# Altium footprint library Конденсаторы-mm.PcbLib: 128 footprints (part 4 of 8)
Each footprint in its own frame and in the unit in brackets; x right, y up, seen from the top. Pads: shape width x height; smd on the part's side, far side on the other; paste and mask are expansions set on the pad; w line width, h text height; cw(c..) or ccw(c..) is an arc to the next point about the centre after c.
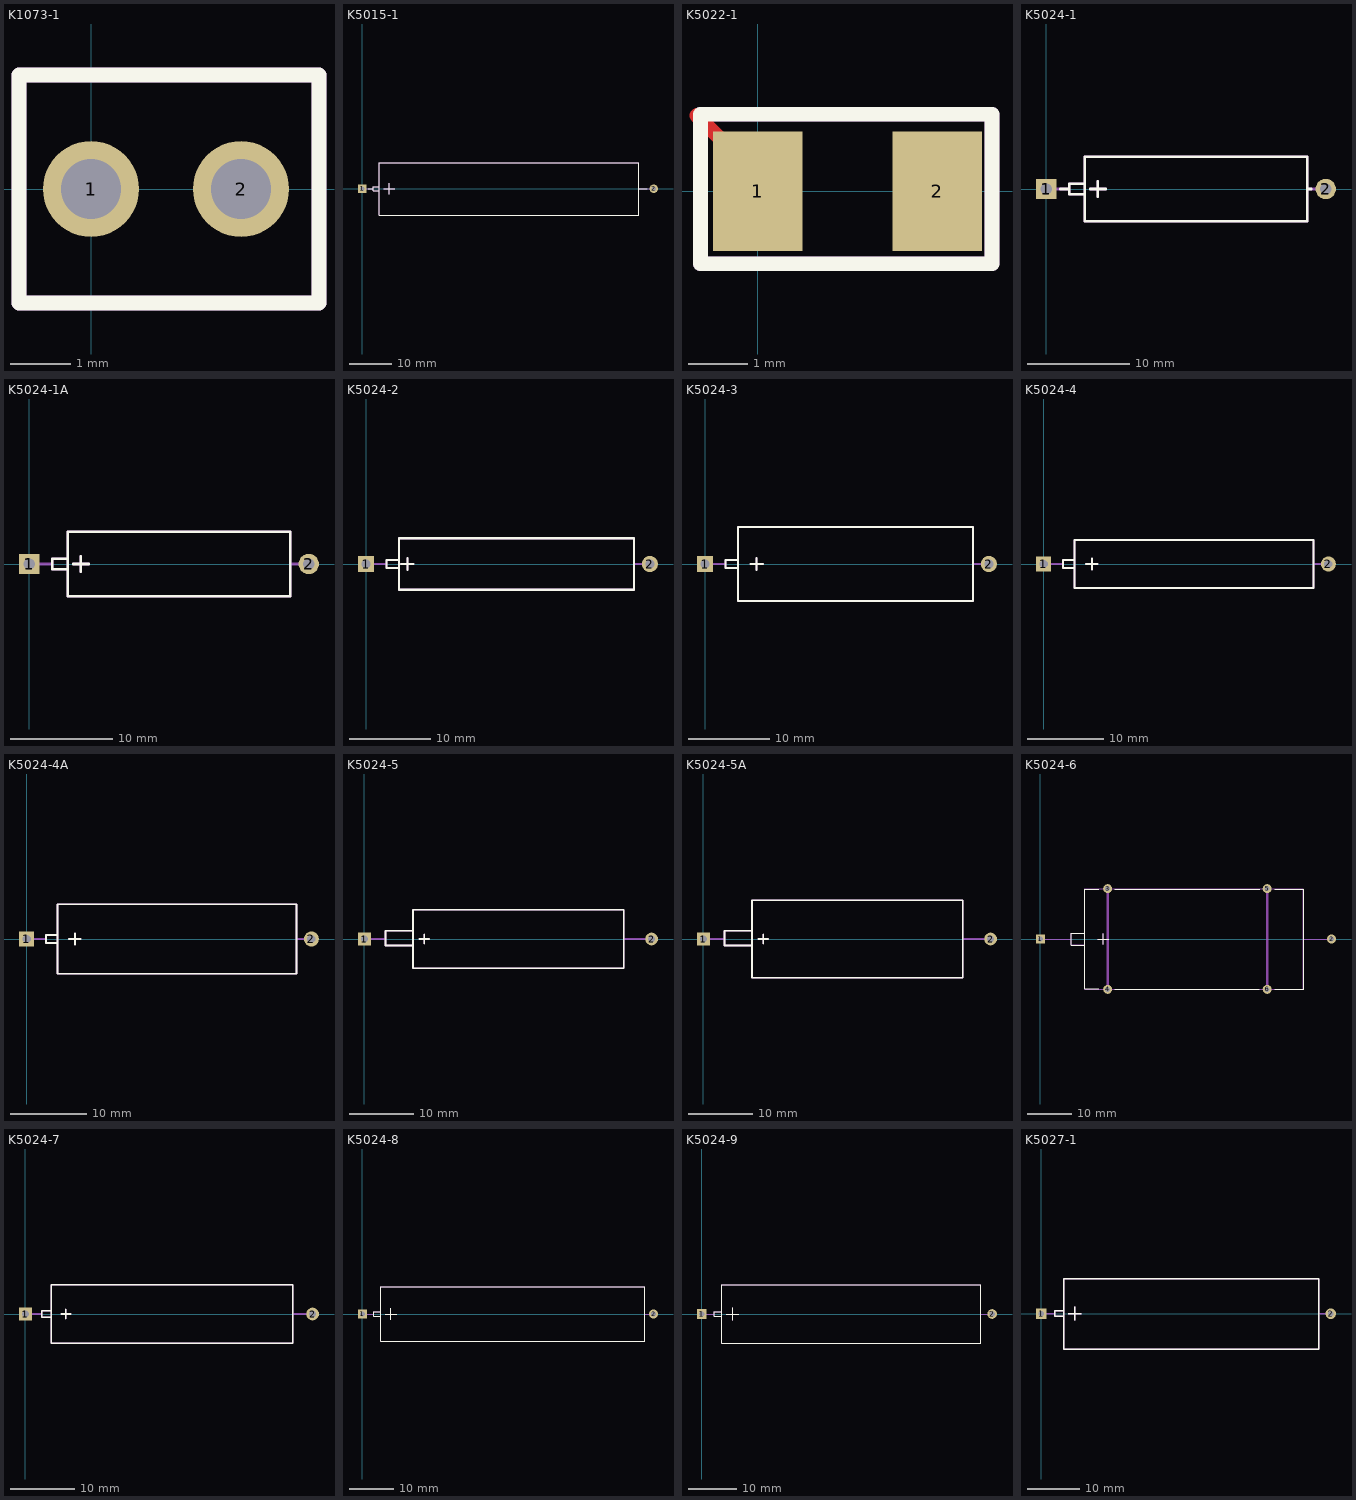
[diagram p3: the footprints below, top view; thin cyan lines are the x and y axes]

## K1073-1 [mm]
pads (2):
  round 1.6 hole 1: 1(0,0) 2(2.5,0)
Top Overlay:
  lines w0.25: -1.2,-1.9 3.8,-1.9 3.8,1.9 -1.2,1.9 -1.2,-1.9
Mechanical 1:
  lines w0.25: -1.2,-1.9 3.8,-1.9 3.8,1.9 -1.2,1.9 -1.2,-1.9

## K5015-1 [mm]
pads (2):
  rect 2x2 hole 1.1: 1(0,0)
  round 2 hole 1.1: 2(68.25,0)
Top Overlay:
  lines w0.25: 1.355,0 2.54,0 ; 3.93,0.51 2.54,0.508 2.54,-0.508 3.94,-0.51 ; 5.08,0 7.62,0 ; 6.35,-1.27 6.35,1.27 ; 64.77,0 66.715,0 ; 3.937,-6.223 64.77,-6.223 64.77,6.096 3.937,6.096 3.937,-6.223
Mechanical 1:
  lines w0.25: 0,0 2.54,0 ; 3.94,-0.51 2.54,-0.508 2.54,0.508 3.94,0.51 ; 5.08,0 7.62,0 ; 6.35,-1.27 6.35,1.27 ; 64.77,0 67.875,0 ; 3.937,-6.223 64.77,-6.223 64.77,6.096 3.937,6.096 3.937,-6.223

## K5022-1 [mm]
pads (2):
  rect 1.5x2 smd: 1(0,0) 2(3,0)
Top Layer:
  lines w0.25: -1.016,1.27 -0.635,0.889
Top Overlay:
  lines w0.25: -0.96,-1.21 3.915,-1.21 3.915,1.29 -0.96,1.29 -0.96,-1.21
Mechanical 1:
  lines w0.25: -0.96,-1.21 3.915,-1.21 3.915,1.29 -0.96,1.29 -0.96,-1.21

## K5024-1 [mm]
pads (2):
  rect 2x2 hole 1.1: 1(0,0)
  round 2 hole 1.1: 2(27.5,0)
Top Overlay:
  lines w0.25: 1.37,0 2.286,0 ; 3.81,-0.508 2.286,-0.508 2.286,0.508 3.81,0.508 ; 4.318,0 5.842,0 ; 5.08,-0.762 5.08,0.762 ; 25.654,0 26.06,0 ; 3.81,-3.175 25.654,-3.175 25.654,3.175 3.81,3.175 3.81,-3.175
Mechanical 1:
  lines w0.25: 0,0 2.286,0 ; 3.81,-0.508 2.286,-0.508 2.286,0.508 3.81,0.508 ; 4.318,0 5.842,0 ; 5.08,-0.762 5.08,0.762 ; 25.654,0 27.18,0 ; 3.81,-3.175 25.654,-3.175 25.654,3.175 3.81,3.175 3.81,-3.175

## K5024-1A [mm]
pads (2):
  rect 2x2 hole 1.1: 1(0,0)
  round 2 hole 1.1: 2(27.5,0)
Top Overlay:
  lines w0.25: 3.81,-0.508 2.286,-0.508 2.286,0.508 3.81,0.508 ; 4.318,0 5.842,0 ; 5.08,-0.762 5.08,0.762 ; 3.81,-3.175 25.654,-3.175 25.654,3.175 3.81,3.175 3.81,-3.175
Mechanical 1:
  lines w0.25: 0,0 2.286,0 ; 3.81,-0.508 2.286,-0.508 2.286,0.508 3.81,0.508 ; 4.318,0 5.842,0 ; 5.08,-0.762 5.08,0.762 ; 25.654,0 27.21,0 ; 3.81,-3.175 25.654,-3.175 25.654,3.175 3.81,3.175 3.81,-3.175

## K5024-2 [mm]
pads (2):
  rect 2x2 hole 1.1: 1(0,0)
  round 2 hole 1.1: 2(35,0)
Top Overlay:
  lines w0.25: 4.064,-0.508 2.54,-0.508 2.54,0.508 4.064,0.508 ; 4.318,0 5.842,0 ; 5.08,-0.762 5.08,0.762 ; 4.064,-3.175 33.02,-3.175 33.02,3.175 4.064,3.175 4.064,-3.175
Mechanical 1:
  lines w0.25: 0,0 2.54,0 ; 4.064,-0.508 2.54,-0.508 2.54,0.508 4.064,0.508 ; 4.318,0 5.842,0 ; 5.08,-0.762 5.08,0.762 ; 33.02,0 34.63,0 ; 4.064,-3.175 33.02,-3.175 33.02,3.175 4.064,3.175 4.064,-3.175

## K5024-3 [mm]
pads (2):
  rect 2x2 hole 1.1: 1(0,0)
  round 2 hole 1.1: 2(35,0)
Top Overlay:
  lines w0.25: 4.064,-0.508 2.54,-0.508 2.54,0.508 4.064,0.508 ; 5.588,0 7.112,0 ; 6.35,-0.762 6.35,0.762 ; 4.064,-4.572 33.02,-4.572 33.02,-3.175 33.02,4.572 4.064,4.572 4.064,-3.175 4.064,-4.572
Mechanical 1:
  lines w0.25: 0,0 2.54,0 ; 4.064,-0.508 2.54,-0.508 2.54,0.508 4.064,0.508 ; 5.588,0 7.112,0 ; 6.35,-0.762 6.35,0.762 ; 33.02,0 34.84,0 ; 4.064,-4.572 33.02,-4.572 33.02,-3.175 33.02,4.572 4.064,4.572 4.064,-3.175 4.064,-4.572

## K5024-4 [mm]
pads (2):
  rect 2x2 hole 1.1: 1(0,0)
  round 2 hole 1.1: 2(37.5,0)
Top Overlay:
  lines w0.25: 4.064,-0.508 2.54,-0.508 2.54,0.508 4.064,0.508 ; 5.588,0 7.112,0 ; 6.35,-0.762 6.35,0.762 ; 4.064,-3.175 35.56,-3.175 35.56,3.175 4.064,3.175 4.064,-3.175
Mechanical 1:
  lines w0.25: 0,0 2.54,0 ; 4.064,-0.508 2.54,-0.508 2.54,0.508 4.064,0.508 ; 5.588,0 7.112,0 ; 6.35,-0.762 6.35,0.762 ; 35.56,0 37.15,0 ; 4.064,-3.175 35.56,-3.175 35.56,3.175 4.064,3.175 4.064,-3.175

## K5024-4A [mm]
pads (2):
  rect 2x2 hole 1.1: 1(0,0)
  round 2 hole 1.1: 2(37.5,0)
Top Overlay:
  lines w0.25: 4.064,-0.508 2.54,-0.508 2.54,0.508 4.064,0.508 ; 5.588,0 7.112,0 ; 6.35,-0.762 6.35,0.762 ; 4.064,-4.572 35.56,-4.572 35.56,4.572 4.064,4.572 4.064,-4.572
Mechanical 1:
  lines w0.25: 0,0 2.54,0 ; 4.064,-0.508 2.54,-0.508 2.54,0.508 4.064,0.508 ; 5.588,0 7.112,0 ; 6.35,-0.762 6.35,0.762 ; 35.56,0 37.29,0 ; 4.064,-4.572 35.56,-4.572 35.56,4.572 4.064,4.572 4.064,-4.572

## K5024-5 [mm]
pads (2):
  rect 2x2 hole 1.1: 1(0,0)
  round 2 hole 1.1: 2(45,0)
Top Overlay:
  lines w0.25: 7.62,-1.016 3.302,-1.016 3.302,1.27 7.62,1.27 ; 8.636,0 10.16,0 ; 9.398,-0.762 9.398,0.762 ; 7.62,-4.572 40.64,-4.572 40.64,4.572 7.62,4.572 7.62,-4.572
Mechanical 1:
  lines w0.25: 0,0 3.302,0 ; 7.62,-1.016 3.302,-1.016 3.302,1.27 7.62,1.27 ; 8.636,0 10.16,0 ; 9.398,-0.762 9.398,0.762 ; 40.64,0 44.63,0 ; 7.62,-4.572 40.64,-4.572 40.64,4.572 7.62,4.572 7.62,-4.572

## K5024-5A [mm]
pads (2):
  rect 2x2 hole 1.1: 1(0,0)
  round 2 hole 1.1: 2(45,0)
Top Overlay:
  lines w0.25: 7.62,-1.016 3.302,-1.016 3.302,1.27 7.62,1.27 ; 8.636,0 10.16,0 ; 9.398,-0.762 9.398,0.762 ; 7.62,-6.096 40.64,-6.096 40.64,6.096 7.62,6.096 7.62,-6.096
Mechanical 1:
  lines w0.25: 0,0 3.302,0 ; 7.62,-1.016 3.302,-1.016 3.302,1.27 7.62,1.27 ; 8.636,0 10.16,0 ; 9.398,-0.762 9.398,0.762 ; 40.65,0 44.7,0 ; 7.62,-6.096 40.64,-6.096 40.64,6.096 7.62,6.096 7.62,-6.096

## K5024-6 [mm]
pads (6):
  rect 2x2 hole 1.1: 1(0,0)
  round 2 hole 1.1: 2(65,0) 3(15,11.25) 4(15,-11.25) 5(50.625,11.25) 6(50.625,-11.25)
Top Overlay:
  lines w0.25: 9.875,-1.375 6.875,-1.375 6.875,1.25 9.875,1.25 ; 12.75,0 15.25,0 ; 13,-11.125 9.875,-11.125 9.875,11.125 13,11.125 ; 14,-1.125 14,1.125 ; 16.625,-11.25 48.875,-11.25 ; 16.625,11.125 49,11.125 ; 52.375,-11.25 58.75,-11.25 58.75,-11.125 58.75,11.125 52.375,11.125
Mechanical 1:
  lines w0.25: 0,0 6.858,0 ; 9.906,-1.27 6.858,-1.27 6.858,1.27 9.906,1.27 ; 12.7,0 15.24,0 ; 13.97,-1.27 13.97,1.27 ; 58.674,0 64.52,0 ; 9.906,-11.176 58.674,-11.176 58.674,11.176 9.906,11.176 9.906,-11.176
  lines w0.5: 15,-11.125 15,11.25 ; 50.625,-11.25 50.625,11.25

## K5024-7 [mm]
pads (2):
  rect 2x2 hole 1.1: 1(0,0)
  round 2 hole 1.1: 2(45,0)
Top Overlay:
  lines w0.25: 4.064,-0.508 2.54,-0.508 2.54,0.508 4.064,0.508 ; 5.588,0 7.112,0 ; 6.35,-0.762 6.35,0.762 ; 4.064,-4.572 41.91,-4.572 41.91,-3.175 41.91,4.572 4.064,4.572 4.064,-3.175 4.064,-4.572
Mechanical 1:
  lines w0.25: 0,0 2.54,0 ; 4.064,-0.508 2.54,-0.508 2.54,0.508 4.064,0.508 ; 5.588,0 7.112,0 ; 6.35,-0.762 6.35,0.762 ; 41.91,0 44.82,0 ; 4.064,-4.572 41.91,-4.572 41.91,-3.175 41.91,4.572 4.064,4.572 4.064,-3.175 4.064,-4.572

## K5024-8 [mm]
pads (2):
  rect 2x2 hole 1.1: 1(0,0)
  round 2 hole 1.1: 2(65,0)
Top Overlay:
  lines w0.25: 4.064,-0.508 2.54,-0.508 2.54,0.508 4.064,0.508 ; 5.08,0 7.62,0 ; 6.35,-1.27 6.35,1.27 ; 4.064,-6.096 62.992,-6.096 62.992,6.096 4.064,6.096 4.064,-6.096
Mechanical 1:
  lines w0.25: 0,0 2.54,0 ; 4.064,-0.508 2.54,-0.508 2.54,0.508 4.064,0.508 ; 5.08,0 7.62,0 ; 6.35,-1.27 6.35,1.27 ; 62.992,0 64.73,0 ; 4.064,-6.096 62.992,-6.096 62.992,6.096 4.064,6.096 4.064,-6.096

## K5024-9 [mm]
pads (2):
  rect 2x2 hole 1.1: 1(0,0)
  round 2 hole 1.1: 2(60,0)
Top Overlay:
  lines w0.25: 4.064,-0.508 2.54,-0.508 2.54,0.508 4.064,0.508 ; 5.08,0 7.62,0 ; 6.35,-1.27 6.35,1.27 ; 4.064,-6.096 57.658,-6.096 57.658,6.096 4.064,6.096 4.064,-6.096
Mechanical 1:
  lines w0.25: 0,0 2.54,0 ; 4.064,-0.508 2.54,-0.508 2.54,0.508 4.064,0.508 ; 5.08,0 7.62,0 ; 6.35,-1.27 6.35,1.27 ; 57.785,0 59.68,0 ; 4.064,-6.096 57.658,-6.096 57.658,6.096 4.064,6.096 4.064,-6.096

## K5027-1 [mm]
pads (2):
  rect 2x2 hole 1.1: 1(0,0)
  round 2 hole 1.1: 2(55,0)
Top Overlay:
  lines w0.25: 4.318,-0.508 2.54,-0.508 2.54,0.508 4.318,0.508 ; 5.08,0 7.62,0 ; 6.35,-1.27 6.35,1.27 ; 4.318,-6.731 52.705,-6.731 52.705,6.604 4.318,6.604 4.318,-6.731
Mechanical 1:
  lines w0.25: 0,0 2.54,0 ; 4.318,-0.508 2.54,-0.508 2.54,0.508 4.318,0.508 ; 5.08,0 7.62,0 ; 6.35,-1.27 6.35,1.27 ; 52.832,0 54.67,0 ; 4.318,-6.731 52.705,-6.731 52.705,6.604 4.318,6.604 4.318,-6.731